# Altium integrated library TI_Logic_Specialty_Logic.IntLib: 2504 symbols (part 46 of 81)
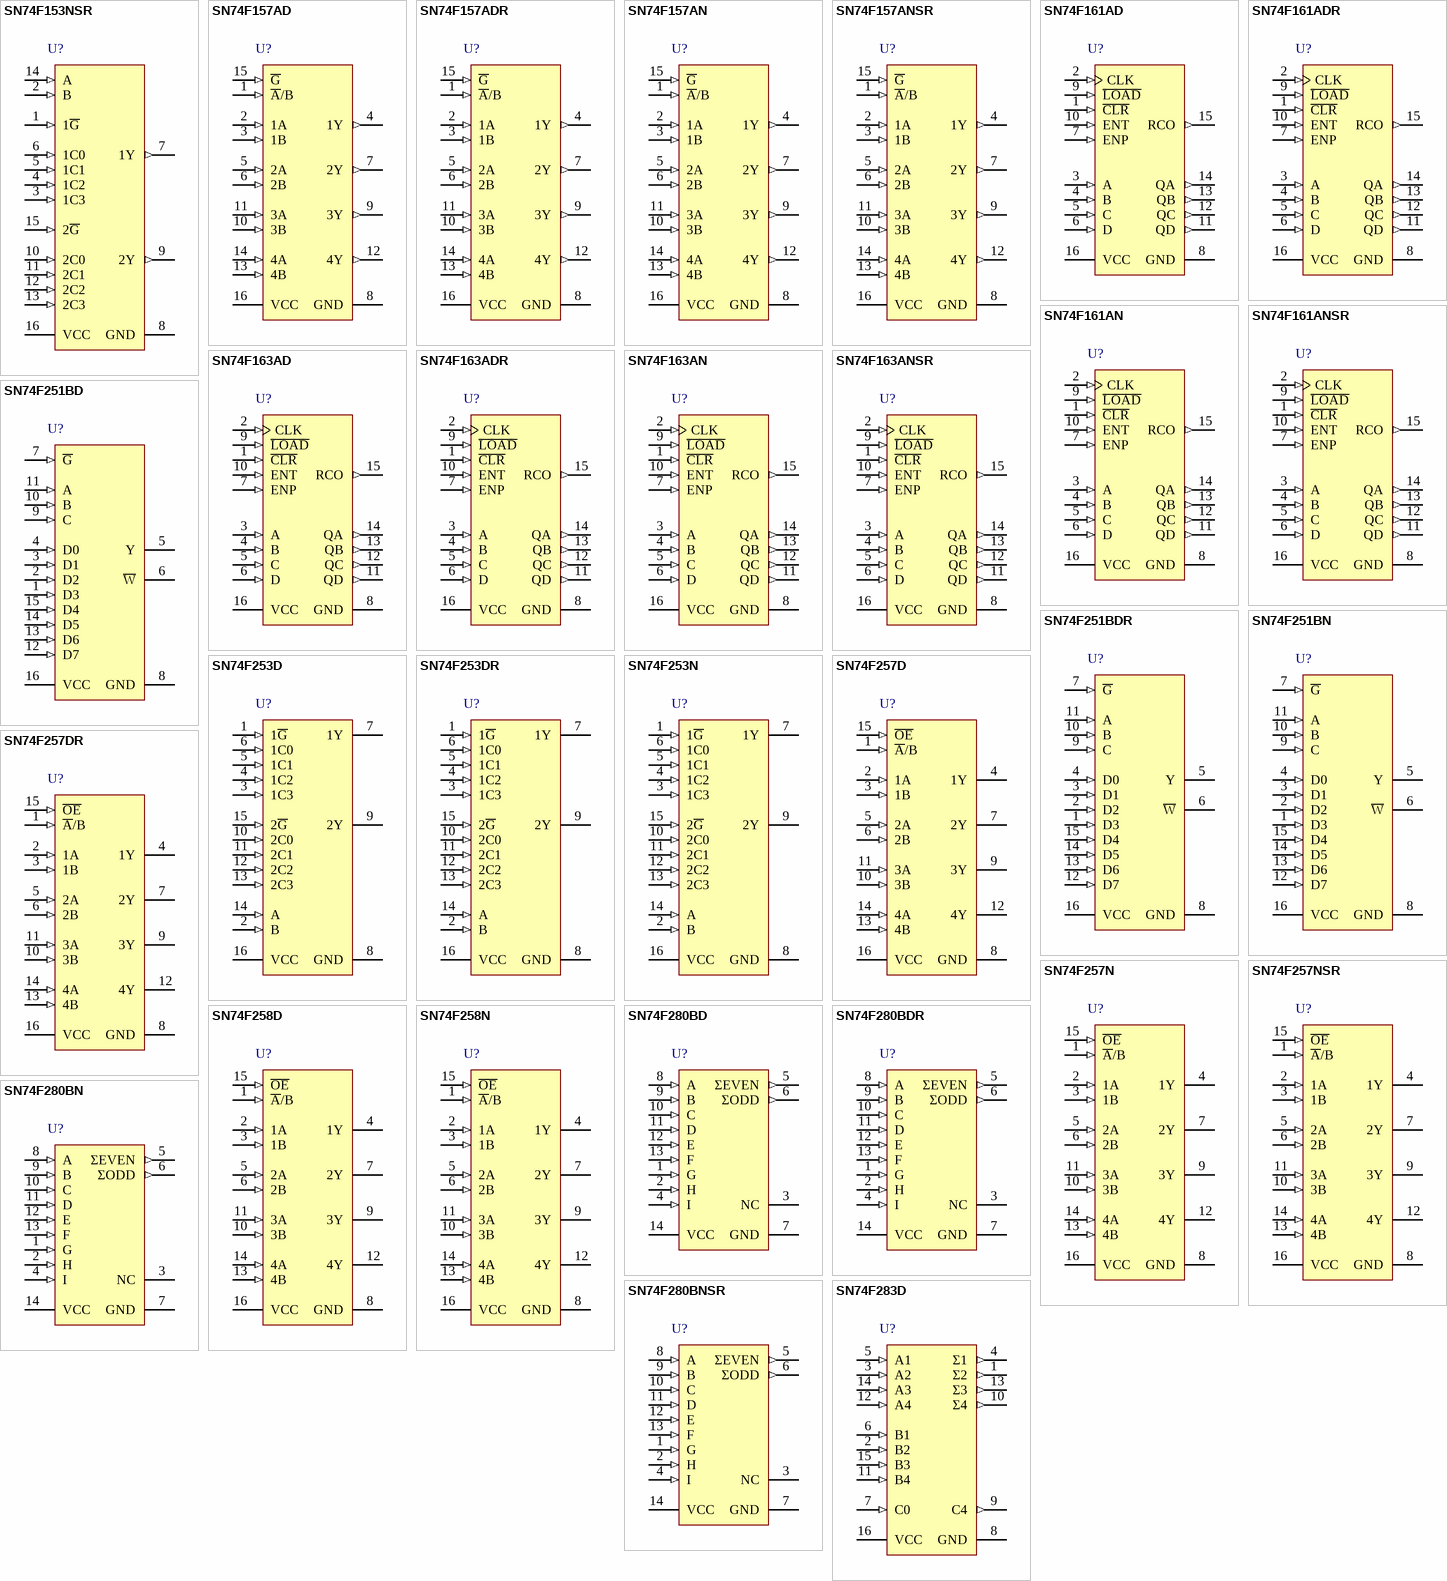
[diagram p149: symbols SN74F153NSR to SN74F283D]

## SN74F253D
designator U?
Dual 1-of-4 Data Selectors/Multiplexers With 3-State Outputs, D0016A, TUBE; Generic Part Number: SN74F253; Manufacturer: Texas Instruments; PartNumber: SN74F253D; VCC(Min)(V): 4.5; VCC(Max)(V): 5.5; Function: Encoder/Multiplexer; ICC @ Nom Voltage(Max)(mA): 23; F @ Nom Voltage(Max)(Mhz): 70; Configuration: 4：1; Channels(#): 2; Rating: Catalog; Technology Family: F; Voltage(Nom)(V): 5; Schmitt Trigger: No; Output Drive (IOL/IOH)(Max)(mA): 24/-3; tpd @ Nom Voltage(Max)(ns): 13; DatasheetVersion: SDFS064A; PackageReference: D0016A; Supplier 1: Mouser; Supplier Part Number 1: 595-SN74F253D; Supplier 2: Digi-Key; Supplier Part Number 2: 296-3573-5-ND; Operating Temperature Range(C): 0 to 70; Type: 3-State Output; Code_JEDEC: MS-012 variation AC; ComponentLink1Description: Manufacturer URL; ComponentLink1URL: http://www.ti.com/; ComponentLink2Description: Datasheet; ComponentLink2URL: http://www.ti.com/lit/ds/symlink/sn74f253.pdf; ComponentLink3Description: Package Specification; ComponentLink3URL: http://www.ti.com/lit/ml/mpds178g/mpds178g.pdf
footprint D0016A_N (SOIC, 16-Leads, Body 10x4mm, Pitch 1.27mm, IPC Medium Density)
footprint D0016A_M (SOIC, 16-Leads, Body 10x4mm, Pitch 1.27mm, IPC Low Density)
footprint D0016A_L (SOIC, 16-Leads, Body 10x4mm, Pitch 1.27mm, IPC High Density)
pins: 1 1~{G} (in), 2 B (in), 3 1C3 (in), 4 1C2 (in), 5 1C1 (in), 6 1C0 (in), 7 1Y (hiz), 8 GND (power), 9 2Y (hiz), 10 2C0 (in), 11 2C1 (in), 12 2C2 (in), 13 2C3 (in), 14 A (in), 15 2~{G} (in), 16 VCC (power)

## SN74F253DR
designator U?
Dual 1-of-4 Data Selectors/Multiplexers With 3-State Outputs, D0016A, LARGE T&R; Generic Part Number: SN74F253; Manufacturer: Texas Instruments; PartNumber: SN74F253DR; VCC(Min)(V): 4.5; VCC(Max)(V): 5.5; Function: Encoder/Multiplexer; ICC @ Nom Voltage(Max)(mA): 23; F @ Nom Voltage(Max)(Mhz): 70; Configuration: 4：1; Channels(#): 2; Rating: Catalog; Technology Family: F; Voltage(Nom)(V): 5; Schmitt Trigger: No; Output Drive (IOL/IOH)(Max)(mA): 24/-3; tpd @ Nom Voltage(Max)(ns): 13; DatasheetVersion: SDFS064A; PackageReference: D0016A; Supplier 1: Mouser; Supplier Part Number 1: 595-SN74F253DR; Supplier 2: Digi-Key; Supplier Part Number 2: 296-31764-2-ND; Supplier 3: Digi-Key; Supplier Part Number 3: 296-31764-1-ND; Supplier 4: Digi-Key; Supplier Part Number 4: 296-31764-6-ND; Operating Temperature Range(C): 0 to 70; Type: 3-State Output; Code_JEDEC: MS-012 variation AC; ComponentLink1Description: Manufacturer URL; ComponentLink1URL: http://www.ti.com/; ComponentLink2Description: Datasheet; ComponentLink2URL: http://www.ti.com/lit/ds/symlink/sn74f253.pdf; ComponentLink3Description: Package Specification; ComponentLink3URL: http://www.ti.com/lit/ml/mpds178g/mpds178g.pdf
footprint D0016A_N (SOIC, 16-Leads, Body 10x4mm, Pitch 1.27mm, IPC Medium Density)
footprint D0016A_M (SOIC, 16-Leads, Body 10x4mm, Pitch 1.27mm, IPC Low Density)
footprint D0016A_L (SOIC, 16-Leads, Body 10x4mm, Pitch 1.27mm, IPC High Density)
pins: 1 1~{G} (in), 2 B (in), 3 1C3 (in), 4 1C2 (in), 5 1C1 (in), 6 1C0 (in), 7 1Y (hiz), 8 GND (power), 9 2Y (hiz), 10 2C0 (in), 11 2C1 (in), 12 2C2 (in), 13 2C3 (in), 14 A (in), 15 2~{G} (in), 16 VCC (power)

## SN74F253N
designator U?
Dual 1-of-4 Data Selectors/Multiplexers With 3-State Outputs, N0016A, TUBE; Generic Part Number: SN74F253; Manufacturer: Texas Instruments; PartNumber: SN74F253N; VCC(Min)(V): 4.5; VCC(Max)(V): 5.5; Function: Encoder/Multiplexer; ICC @ Nom Voltage(Max)(mA): 23; F @ Nom Voltage(Max)(Mhz): 70; Configuration: 4：1; Channels(#): 2; Rating: Catalog; Technology Family: F; Voltage(Nom)(V): 5; Schmitt Trigger: No; Output Drive (IOL/IOH)(Max)(mA): 24/-3; tpd @ Nom Voltage(Max)(ns): 13; DatasheetVersion: SDFS064A; PackageReference: N0016A; Supplier 1: Mouser; Supplier Part Number 1: 595-SN74F253N; Supplier 2: Digi-Key; Supplier Part Number 2: 296-3574-5-ND; Operating Temperature Range(C): 0 to 70; Type: 3-State Output; Code_JEDEC: MS-001; ComponentLink1Description: Manufacturer URL; ComponentLink1URL: http://www.ti.com/; ComponentLink2Description: Datasheet; ComponentLink2URL: http://www.ti.com/lit/ds/symlink/sn74f253.pdf; ComponentLink3Description: Package Specification; ComponentLink3URL: http://www.ti.com/lit/ml/mpdi002c/mpdi002c.pdf
footprint N0016A (DIP, 16-Leads, Body 19.7x6.6mm, Pitch 2.54mm)
pins: 1 1~{G} (in), 2 B (in), 3 1C3 (in), 4 1C2 (in), 5 1C1 (in), 6 1C0 (in), 7 1Y (hiz), 8 GND (power), 9 2Y (hiz), 10 2C0 (in), 11 2C1 (in), 12 2C2 (in), 13 2C3 (in), 14 A (in), 15 2~{G} (in), 16 VCC (power)

## SN74F257D
designator U?
Quadruple 2-Line To 1-Line Data Selectors/Multiplexers With 3-State Outputs, D0016A, TUBE; Generic Part Number: SN74F257; Manufacturer: Texas Instruments; PartNumber: SN74F257D; VCC(Min)(V): 4.5; VCC(Max)(V): 5.5; Function: Encoder/Multiplexer; ICC @ Nom Voltage(Max)(mA): 23; F @ Nom Voltage(Max)(Mhz): 70; Configuration: 2：1; Channels(#): 4; Rating: Catalog; Technology Family: F; Voltage(Nom)(V): 5; Schmitt Trigger: No; Output Drive (IOL/IOH)(Max)(mA): 24/-3; tpd @ Nom Voltage(Max)(ns): 7; DatasheetVersion: SDFS065A; PackageReference: D0016A; Supplier 1: Mouser; Supplier Part Number 1: 595-SN74F257D; Supplier 2: Digi-Key; Supplier Part Number 2: 296-1555-5-ND; Operating Temperature Range(C): 0 to 70; Type: 3-State Output; Code_JEDEC: MS-012 variation AC; ComponentLink1Description: Manufacturer URL; ComponentLink1URL: http://www.ti.com/; ComponentLink2Description: Datasheet; ComponentLink2URL: http://www.ti.com/lit/ds/symlink/sn74f257.pdf; ComponentLink3Description: Package Specification; ComponentLink3URL: http://www.ti.com/lit/ml/mpds178g/mpds178g.pdf
footprint D0016A_N (SOIC, 16-Leads, Body 10x4mm, Pitch 1.27mm, IPC Medium Density)
footprint D0016A_M (SOIC, 16-Leads, Body 10x4mm, Pitch 1.27mm, IPC Low Density)
footprint D0016A_L (SOIC, 16-Leads, Body 10x4mm, Pitch 1.27mm, IPC High Density)
pins: 1 ~{A}/B (in), 2 1A (in), 3 1B (in), 4 1Y (hiz), 5 2A (in), 6 2B (in), 7 2Y (hiz), 8 GND (power), 9 3Y (hiz), 10 3B (in), 11 3A (in), 12 4Y (hiz), 13 4B (in), 14 4A (in), 15 ~{OE} (in), 16 VCC (power)

## SN74F257DR
designator U?
Quadruple 2-Line To 1-Line Data Selectors/Multiplexers With 3-State Outputs, D0016A, LARGE T&R; Generic Part Number: SN74F257; Manufacturer: Texas Instruments; PartNumber: SN74F257DR; VCC(Min)(V): 4.5; VCC(Max)(V): 5.5; Function: Encoder/Multiplexer; ICC @ Nom Voltage(Max)(mA): 23; F @ Nom Voltage(Max)(Mhz): 70; Configuration: 2：1; Channels(#): 4; Rating: Catalog; Technology Family: F; Voltage(Nom)(V): 5; Schmitt Trigger: No; Output Drive (IOL/IOH)(Max)(mA): 24/-3; tpd @ Nom Voltage(Max)(ns): 7; DatasheetVersion: SDFS065A; PackageReference: D0016A; Supplier 1: Mouser; Supplier Part Number 1: 595-SN74F257DR; Supplier 2: Digi-Key; Supplier Part Number 2: 296-1555-2-ND; Supplier 3: Digi-Key; Supplier Part Number 3: 296-1555-1-ND; Supplier 4: Digi-Key; Supplier Part Number 4: 296-1555-6-ND; Operating Temperature Range(C): 0 to 70; Type: 3-State Output; Code_JEDEC: MS-012 variation AC; ComponentLink1Description: Manufacturer URL; ComponentLink1URL: http://www.ti.com/; ComponentLink2Description: Datasheet; ComponentLink2URL: http://www.ti.com/lit/ds/symlink/sn74f257.pdf; ComponentLink3Description: Package Specification; ComponentLink3URL: http://www.ti.com/lit/ml/mpds178g/mpds178g.pdf
footprint D0016A_N (SOIC, 16-Leads, Body 10x4mm, Pitch 1.27mm, IPC Medium Density)
footprint D0016A_M (SOIC, 16-Leads, Body 10x4mm, Pitch 1.27mm, IPC Low Density)
footprint D0016A_L (SOIC, 16-Leads, Body 10x4mm, Pitch 1.27mm, IPC High Density)
pins: 1 ~{A}/B (in), 2 1A (in), 3 1B (in), 4 1Y (hiz), 5 2A (in), 6 2B (in), 7 2Y (hiz), 8 GND (power), 9 3Y (hiz), 10 3B (in), 11 3A (in), 12 4Y (hiz), 13 4B (in), 14 4A (in), 15 ~{OE} (in), 16 VCC (power)

## SN74F257N
designator U?
Quadruple 2-Line To 1-Line Data Selectors/Multiplexers With 3-State Outputs, N0016A, TUBE; Generic Part Number: SN74F257; Manufacturer: Texas Instruments; PartNumber: SN74F257N; VCC(Min)(V): 4.5; VCC(Max)(V): 5.5; Function: Encoder/Multiplexer; ICC @ Nom Voltage(Max)(mA): 23; F @ Nom Voltage(Max)(Mhz): 70; Configuration: 2：1; Channels(#): 4; Rating: Catalog; Technology Family: F; Voltage(Nom)(V): 5; Schmitt Trigger: No; Output Drive (IOL/IOH)(Max)(mA): 24/-3; tpd @ Nom Voltage(Max)(ns): 7; DatasheetVersion: SDFS065A; PackageReference: N0016A; Supplier 1: Mouser; Supplier Part Number 1: 595-SN74F257N; Supplier 2: Digi-Key; Supplier Part Number 2: 296-3575-5-ND; Operating Temperature Range(C): 0 to 70; Type: 3-State Output; Code_JEDEC: MS-001; ComponentLink1Description: Manufacturer URL; ComponentLink1URL: http://www.ti.com/; ComponentLink2Description: Datasheet; ComponentLink2URL: http://www.ti.com/lit/ds/symlink/sn74f257.pdf; ComponentLink3Description: Package Specification; ComponentLink3URL: http://www.ti.com/lit/ml/mpdi002c/mpdi002c.pdf
footprint N0016A (DIP, 16-Leads, Body 19.7x6.6mm, Pitch 2.54mm)
pins: 1 ~{A}/B (in), 2 1A (in), 3 1B (in), 4 1Y (hiz), 5 2A (in), 6 2B (in), 7 2Y (hiz), 8 GND (power), 9 3Y (hiz), 10 3B (in), 11 3A (in), 12 4Y (hiz), 13 4B (in), 14 4A (in), 15 ~{OE} (in), 16 VCC (power)

## SN74F257NSR
designator U?
Quadruple 2-Line To 1-Line Data Selectors/Multiplexers With 3-State Outputs, NS0016A, LARGE T&R; Generic Part Number: SN74F257; Manufacturer: Texas Instruments; PartNumber: SN74F257NSR; VCC(Min)(V): 4.5; VCC(Max)(V): 5.5; Function: Encoder/Multiplexer; ICC @ Nom Voltage(Max)(mA): 23; F @ Nom Voltage(Max)(Mhz): 70; Configuration: 2：1; Channels(#): 4; Rating: Catalog; Technology Family: F; Voltage(Nom)(V): 5; Schmitt Trigger: No; Output Drive (IOL/IOH)(Max)(mA): 24/-3; tpd @ Nom Voltage(Max)(ns): 7; DatasheetVersion: SDFS065A; PackageReference: NS0016A; Supplier 1: Mouser; Supplier Part Number 1: 595-SN74F257NSR; Supplier 2: Digi-Key; Supplier Part Number 2: 296-29996-2-ND; Supplier 3: Digi-Key; Supplier Part Number 3: 296-29996-1-ND; Supplier 4: Digi-Key; Supplier Part Number 4: 296-29996-6-ND; Operating Temperature Range(C): 0 to 70; Type: 3-State Output; ComponentLink1Description: Manufacturer URL; ComponentLink1URL: http://www.ti.com/; ComponentLink2Description: Datasheet; ComponentLink2URL: http://www.ti.com/lit/ds/symlink/sn74f257.pdf; ComponentLink3Description: Package Specification; ComponentLink3URL: http://www.ti.com/lit/ml/msop002a/msop002a.pdf
footprint NS0016A_N (SOIC,16-Leads,Body 10.5x5.6mm,Pitch 1.27mm,IPC Medium Density)
footprint NS0016A_M (SOIC,16-Leads,Body 10.5x5.6mm,Pitch 1.27mm,IPC Low Density)
footprint NS0016A_L (SOIC,16-Leads,Body 10.5x5.6mm,Pitch 1.27mm,IPC High Density)
pins: 1 ~{A}/B (in), 2 1A (in), 3 1B (in), 4 1Y (hiz), 5 2A (in), 6 2B (in), 7 2Y (hiz), 8 GND (power), 9 3Y (hiz), 10 3B (in), 11 3A (in), 12 4Y (hiz), 13 4B (in), 14 4A (in), 15 ~{OE} (in), 16 VCC (power)

## SN74F258D
designator U?
Quadruple 2-Line To 1-Line Data Selectors/Multiplexers With 3-State Outputs, D0016A, TUBE; Generic Part Number: SN74F258; Manufacturer: Texas Instruments; PartNumber: SN74F258D; VCC(Min)(V): 4.5; VCC(Max)(V): 5.5; Function: Encoder/Multiplexer; ICC @ Nom Voltage(Max)(mA): 23; F @ Nom Voltage(Max)(Mhz): 70; Configuration: 2：1; Channels(#): 4; Rating: Catalog; Technology Family: F; Voltage(Nom)(V): 5; Schmitt Trigger: No; Output Drive (IOL/IOH)(Max)(mA): 24/-3; tpd @ Nom Voltage(Max)(ns): 6; DatasheetVersion: SDFS067A; PackageReference: D0016A; Supplier 1: Mouser; Supplier Part Number 1: 595-SN74F258D; Supplier 2: Digi-Key; Supplier Part Number 2: 296-33903-5-ND; Operating Temperature Range(C): 0 to 70; Type: 3-State Output; Code_JEDEC: MS-012 variation AC; ComponentLink1Description: Manufacturer URL; ComponentLink1URL: http://www.ti.com/; ComponentLink2Description: Datasheet; ComponentLink2URL: http://www.ti.com/lit/ds/symlink/sn74f258.pdf; ComponentLink3Description: Package Specification; ComponentLink3URL: http://www.ti.com/lit/ml/mpds178g/mpds178g.pdf
footprint D0016A_N (SOIC, 16-Leads, Body 10x4mm, Pitch 1.27mm, IPC Medium Density)
footprint D0016A_M (SOIC, 16-Leads, Body 10x4mm, Pitch 1.27mm, IPC Low Density)
footprint D0016A_L (SOIC, 16-Leads, Body 10x4mm, Pitch 1.27mm, IPC High Density)
pins: 1 ~{A}/B (in), 2 1A (in), 3 1B (in), 4 1Y (hiz), 5 2A (in), 6 2B (in), 7 2Y (hiz), 8 GND (power), 9 3Y (hiz), 10 3B (in), 11 3A (in), 12 4Y (hiz), 13 4B (in), 14 4A (in), 15 ~{OE} (in), 16 VCC (power)

## SN74F258N
designator U?
Quadruple 2-Line To 1-Line Data Selectors/Multiplexers With 3-State Outputs, N0016A, TUBE; Generic Part Number: SN74F258; Manufacturer: Texas Instruments; PartNumber: SN74F258N; VCC(Min)(V): 4.5; VCC(Max)(V): 5.5; Function: Encoder/Multiplexer; ICC @ Nom Voltage(Max)(mA): 23; F @ Nom Voltage(Max)(Mhz): 70; Configuration: 2：1; Channels(#): 4; Rating: Catalog; Technology Family: F; Voltage(Nom)(V): 5; Schmitt Trigger: No; Output Drive (IOL/IOH)(Max)(mA): 24/-3; tpd @ Nom Voltage(Max)(ns): 6; DatasheetVersion: SDFS067A; PackageReference: N0016A; Supplier 1: Mouser; Supplier Part Number 1: 595-SN74F258N; Supplier 2: Digi-Key; Supplier Part Number 2: SN74F258N-ND; Operating Temperature Range(C): 0 to 70; Type: 3-State Output; Code_JEDEC: MS-001; ComponentLink1Description: Manufacturer URL; ComponentLink1URL: http://www.ti.com/; ComponentLink2Description: Datasheet; ComponentLink2URL: http://www.ti.com/lit/ds/symlink/sn74f258.pdf; ComponentLink3Description: Package Specification; ComponentLink3URL: http://www.ti.com/lit/ml/mpdi002c/mpdi002c.pdf
footprint N0016A (DIP, 16-Leads, Body 19.7x6.6mm, Pitch 2.54mm)
pins: 1 ~{A}/B (in), 2 1A (in), 3 1B (in), 4 1Y (hiz), 5 2A (in), 6 2B (in), 7 2Y (hiz), 8 GND (power), 9 3Y (hiz), 10 3B (in), 11 3A (in), 12 4Y (hiz), 13 4B (in), 14 4A (in), 15 ~{OE} (in), 16 VCC (power)

## SN74F280BD
designator U?
9-bit odd/even parity generators / checkers, D0014A, TUBE; Generic Part Number: SN74F280B; Manufacturer: Texas Instruments; PartNumber: SN74F280BD; VCC(Min)(V): 4.5; VCC(Max)(V): 5.5; Inputs: 9; ICC @ Nom Voltage(Max)(mA): 35; Bits(#): 2; F @ Nom Voltage(Max)(Mhz): 70; Rating: Catalog; Technology Family: F; Output Drive (IOL/IOH)(Max)(mA): 20/-1; tpd @ Nom Voltage(Max)(ns): 11; DatasheetVersion: SDFS008A; PackageReference: D0014A; Supplier 1: Mouser; Supplier Part Number 1: 595-SN74F280BD; Supplier 2: Digi-Key; Supplier Part Number 2: 296-3578-5-ND; Function: Parity; Operating Temperature Range(C): 0 to 70; Type: Other; Code_JEDEC: MS-012; ComponentLink1Description: Manufacturer URL; ComponentLink1URL: http://www.ti.com/; ComponentLink2Description: Datasheet; ComponentLink2URL: http://www.ti.com/lit/ds/symlink/sn74f280b.pdf; ComponentLink3Description: Package Specification; ComponentLink3URL: http://www.ti.com/lit/ml/mpds177g/mpds177g.pdf
footprint D0014A_N (SOIC, 14-Leads, Body 8.75x4mm, Pitch 1.27mm, IPC Medium Density)
footprint D0014A_M (SOIC, 14-Leads, Body 8.75x4mm, Pitch 1.27mm, IPC Low Density)
footprint D0014A_L (SOIC, 14-Leads, Body 8.75x4mm, Pitch 1.27mm, IPC High Density)
pins: 1 G (in), 2 H (in), 3 NC, 4 I (in), 5 ΣEVEN (out), 6 ΣODD (out), 7 GND (power), 8 A (in), 9 B (in), 10 C (in), 11 D (in), 12 E (in), 13 F (in), 14 VCC (power)

## SN74F280BDR
designator U?
9-bit odd/even parity generators / checkers, D0014A, LARGE T&R; Generic Part Number: SN74F280B; Manufacturer: Texas Instruments; PartNumber: SN74F280BDR; VCC(Min)(V): 4.5; VCC(Max)(V): 5.5; Inputs: 9; ICC @ Nom Voltage(Max)(mA): 35; Bits(#): 2; F @ Nom Voltage(Max)(Mhz): 70; Rating: Catalog; Technology Family: F; Output Drive (IOL/IOH)(Max)(mA): 20/-1; tpd @ Nom Voltage(Max)(ns): 11; DatasheetVersion: SDFS008A; PackageReference: D0014A; Supplier 1: Mouser; Supplier Part Number 1: 595-SN74F280BDR; Supplier 2: Digi-Key; Supplier Part Number 2: 296-14816-2-ND; Supplier 3: Digi-Key; Supplier Part Number 3: 296-14816-1-ND; Supplier 4: Digi-Key; Supplier Part Number 4: 296-14816-6-ND; Function: Parity; Operating Temperature Range(C): 0 to 70; Type: Other; Code_JEDEC: MS-012; ComponentLink1Description: Manufacturer URL; ComponentLink1URL: http://www.ti.com/; ComponentLink2Description: Datasheet; ComponentLink2URL: http://www.ti.com/lit/ds/symlink/sn74f280b.pdf; ComponentLink3Description: Package Specification; ComponentLink3URL: http://www.ti.com/lit/ml/mpds177g/mpds177g.pdf
footprint D0014A_N (SOIC, 14-Leads, Body 8.75x4mm, Pitch 1.27mm, IPC Medium Density)
footprint D0014A_M (SOIC, 14-Leads, Body 8.75x4mm, Pitch 1.27mm, IPC Low Density)
footprint D0014A_L (SOIC, 14-Leads, Body 8.75x4mm, Pitch 1.27mm, IPC High Density)
pins: 1 G (in), 2 H (in), 3 NC, 4 I (in), 5 ΣEVEN (out), 6 ΣODD (out), 7 GND (power), 8 A (in), 9 B (in), 10 C (in), 11 D (in), 12 E (in), 13 F (in), 14 VCC (power)

## SN74F280BN
designator U?
9-bit odd/even parity generators / checkers, N0014A, TUBE; Generic Part Number: SN74F280B; Manufacturer: Texas Instruments; PartNumber: SN74F280BN; VCC(Min)(V): 4.5; VCC(Max)(V): 5.5; Inputs: 9; ICC @ Nom Voltage(Max)(mA): 35; Bits(#): 2; F @ Nom Voltage(Max)(Mhz): 70; Rating: Catalog; Technology Family: F; Output Drive (IOL/IOH)(Max)(mA): 20/-1; tpd @ Nom Voltage(Max)(ns): 11; DatasheetVersion: SDFS008A; PackageReference: N0014A; Supplier 1: Mouser; Supplier Part Number 1: 595-SN74F280BN; Supplier 2: Digi-Key; Supplier Part Number 2: 296-3579-5-ND; Function: Parity; Operating Temperature Range(C): 0 to 70; Type: Other; Code_JEDEC: MS-001; ComponentLink1Description: Manufacturer URL; ComponentLink1URL: http://www.ti.com/; ComponentLink2Description: Datasheet; ComponentLink2URL: http://www.ti.com/lit/ds/symlink/sn74f280b.pdf; ComponentLink3Description: Package Specification; ComponentLink3URL: http://www.ti.com/lit/ml/mpdi002c/mpdi002c.pdf
footprint N0014A (DIP, 14-Leads, Body 19.7x6.6mm, Pitch 2.54mm)
pins: 1 G (in), 2 H (in), 3 NC, 4 I (in), 5 ΣEVEN (out), 6 ΣODD (out), 7 GND (power), 8 A (in), 9 B (in), 10 C (in), 11 D (in), 12 E (in), 13 F (in), 14 VCC (power)

## SN74F280BNSR
designator U?
9-bit odd/even parity generators / checkers, NS0014A, LARGE T&R; Generic Part Number: SN74F280B; Manufacturer: Texas Instruments; PartNumber: SN74F280BNSR; VCC(Min)(V): 4.5; VCC(Max)(V): 5.5; Inputs: 9; ICC @ Nom Voltage(Max)(mA): 35; Bits(#): 2; F @ Nom Voltage(Max)(Mhz): 70; Rating: Catalog; Technology Family: F; Output Drive (IOL/IOH)(Max)(mA): 20/-1; tpd @ Nom Voltage(Max)(ns): 11; DatasheetVersion: SDFS008A; PackageReference: NS0014A; Supplier 1: Mouser; Supplier Part Number 1: 595-SN74F280BNSR; Supplier 2: Digi-Key; Supplier Part Number 2: SN74F280BNSR-ND; Function: Parity; Operating Temperature Range(C): 0 to 70; Type: Other; ComponentLink1Description: Manufacturer URL; ComponentLink1URL: http://www.ti.com/; ComponentLink2Description: Datasheet; ComponentLink2URL: http://www.ti.com/lit/ds/symlink/sn74f280b.pdf; ComponentLink3Description: Package Specification; ComponentLink3URL: http://www.ti.com/lit/ml/msop002a/msop002a.pdf
footprint NS0014A_N (SOIC,14-Leads,Body 10.5x5.6mm,Pitch 1.27mm,IPC Medium Density)
footprint NS0014A_M (SOIC,14-Leads,Body 10.5x5.6mm,Pitch 1.27mm,IPC Low Density)
footprint NS0014A_L (SOIC,14-Leads,Body 10.5x5.6mm,Pitch 0.4mm,IPC High Density)
pins: 1 G (in), 2 H (in), 3 NC, 4 I (in), 5 ΣEVEN (out), 6 ΣODD (out), 7 GND (power), 8 A (in), 9 B (in), 10 C (in), 11 D (in), 12 E (in), 13 F (in), 14 VCC (power)

## SN74F283D
designator U?
4-Bit Binary Full Adders With Fast Carry, D0016A, TUBE; Generic Part Number: SN74F283; Manufacturer: Texas Instruments; PartNumber: SN74F283D; VCC(Min)(V): 4.5; VCC(Max)(V): 5.5; Inputs: 9; Function: Arithmetic; ICC @ Nom Voltage(Max)(mA): 55; Bits(#): 4; F @ Nom Voltage(Max)(Mhz): 70; Rating: Catalog; Technology Family: F; Output Drive (IOL/IOH)(Max)(mA): 20/-1; tpd @ Nom Voltage(Max)(ns): 10.5; DatasheetVersion: SDFS069A; PackageReference: D0016A; Supplier 1: Mouser; Supplier Part Number 1: 595-SN74F283D; Supplier 2: Digi-Key; Supplier Part Number 2: 296-33907-5-ND; Operating Temperature Range(C): 0 to 70; Type: Binary; Code_JEDEC: MS-012 variation AC; ComponentLink1Description: Manufacturer URL; ComponentLink1URL: http://www.ti.com/; ComponentLink2Description: Datasheet; ComponentLink2URL: http://www.ti.com/lit/ds/symlink/sn74f283.pdf; ComponentLink3Description: Package Specification; ComponentLink3URL: http://www.ti.com/lit/ml/mpds178g/mpds178g.pdf
footprint D0016A_N (SOIC, 16-Leads, Body 10x4mm, Pitch 1.27mm, IPC Medium Density)
footprint D0016A_M (SOIC, 16-Leads, Body 10x4mm, Pitch 1.27mm, IPC Low Density)
footprint D0016A_L (SOIC, 16-Leads, Body 10x4mm, Pitch 1.27mm, IPC High Density)
pins: 1 Σ2 (out), 2 B2 (in), 3 A2 (in), 4 Σ1 (out), 5 A1 (in), 6 B1 (in), 7 C0 (in), 8 GND (power), 9 C4 (out), 10 Σ4 (out), 11 B4 (in), 12 A4 (in), 13 Σ3 (out), 14 A3 (in), 15 B3 (in), 16 VCC (power)

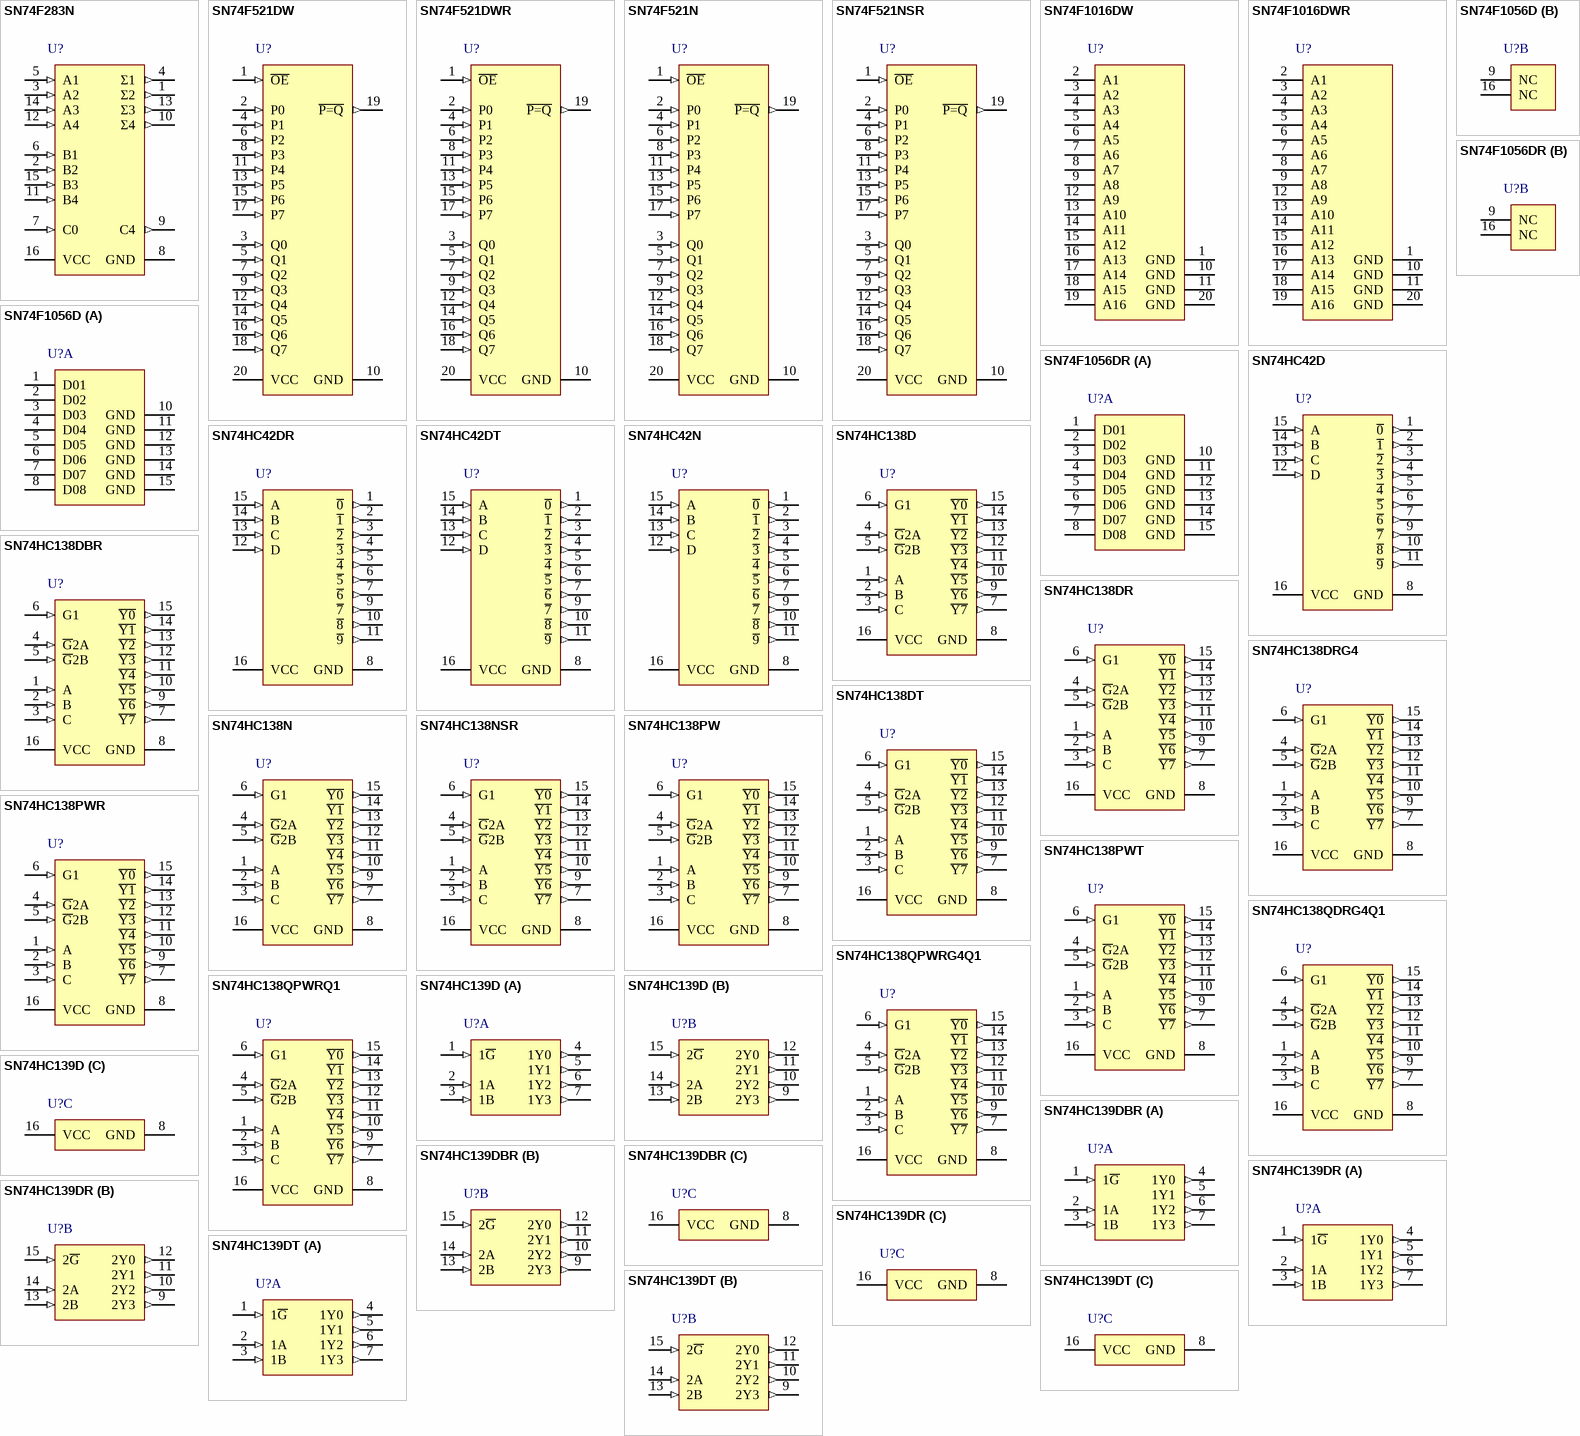
[diagram p59: symbols SN74F283N to SN74HC139DT]

## SN74F283N
designator U?
4-Bit Binary Full Adders With Fast Carry, N0016A, TUBE; Generic Part Number: SN74F283; Manufacturer: Texas Instruments; PartNumber: SN74F283N; VCC(Min)(V): 4.5; VCC(Max)(V): 5.5; Inputs: 9; Function: Arithmetic; ICC @ Nom Voltage(Max)(mA): 55; Bits(#): 4; F @ Nom Voltage(Max)(Mhz): 70; Rating: Catalog; Technology Family: F; Output Drive (IOL/IOH)(Max)(mA): 20/-1; tpd @ Nom Voltage(Max)(ns): 10.5; DatasheetVersion: SDFS069A; PackageReference: N0016A; Supplier 1: Mouser; Supplier Part Number 1: 595-SN74F283N; Supplier 2: Digi-Key; Supplier Part Number 2: 296-3580-5-ND; Operating Temperature Range(C): 0 to 70; Type: Binary; Code_JEDEC: MS-001; ComponentLink1Description: Manufacturer URL; ComponentLink1URL: http://www.ti.com/; ComponentLink2Description: Datasheet; ComponentLink2URL: http://www.ti.com/lit/ds/symlink/sn74f283.pdf; ComponentLink3Description: Package Specification; ComponentLink3URL: http://www.ti.com/lit/ml/mpdi002c/mpdi002c.pdf
footprint N0016A (DIP, 16-Leads, Body 19.7x6.6mm, Pitch 2.54mm)
pins: 1 Σ2 (out), 2 B2 (in), 3 A2 (in), 4 Σ1 (out), 5 A1 (in), 6 B1 (in), 7 C0 (in), 8 GND (power), 9 C4 (out), 10 Σ4 (out), 11 B4 (in), 12 A4 (in), 13 Σ3 (out), 14 A3 (in), 15 B3 (in), 16 VCC (power)

## SN74F521DW
designator U?
8-Bit Identity/Magnitude Comparators (P=Q) with Enable, DW0020A, TUBE; Generic Part Number: SN74F521; Manufacturer: Texas Instruments; PartNumber: SN74F521DW; VCC(Min)(V): 4.5; VCC(Max)(V): 5.5; Output Type: TTL; ICC @ Nom Voltage(Max)(mA): 32; Bits(#): 8; F @ Nom Voltage(Max)(Mhz): 70; Rating: Catalog; Technology Family: F; Voltage(Nom)(V): 5; Output Drive (IOL/IOH)(Max)(mA): 20/-1; tpd @ Nom Voltage(Max)(ns): 11; DatasheetVersion: SDFS091; PackageReference: DW0020A; Supplier 1: Mouser; Supplier Part Number 1: 595-SN74F521DW; Supplier 2: Digi-Key; Supplier Part Number 2: 296-3592-5-ND; Input Type: TTL; Operating Temperature Range(C): 0 to 70; ComponentLink1Description: Manufacturer URL; ComponentLink1URL: http://www.ti.com/; ComponentLink2Description: Datasheet; ComponentLink2URL: http://www.ti.com/lit/ds/symlink/sn74f521.pdf
footprint DW0020A_N (SOIC, 20-Leads, Body 13x7.6mm, Pitch 1.27mm, IPC Medium Density)
footprint DW0020A_M (SOIC, 20-Leads, Body 13x7.6mm, Pitch 1.27mm, IPC Low Density)
footprint DW0020A_L (SOIC, 20-Leads, Body 13x7.6mm, Pitch 1.27mm, IPC High Density)
pins: 1 ~{OE} (in), 2 P0 (in), 3 Q0 (in), 4 P1 (in), 5 Q1 (in), 6 P2 (in), 7 Q2 (in), 8 P3 (in), 9 Q3 (in), 10 GND (power), 11 P4 (in), 12 Q4 (in), 13 P5 (in), 14 Q5 (in), 15 P6 (in), 16 Q6 (in), 17 P7 (in), 18 Q7 (in), 19 ~{P=Q} (out), 20 VCC (power)

## SN74F521DWR
designator U?
8-Bit Identity/Magnitude Comparators (P=Q) with Enable, DW0020A, LARGE T&R; Generic Part Number: SN74F521; Manufacturer: Texas Instruments; PartNumber: SN74F521DWR; VCC(Min)(V): 4.5; VCC(Max)(V): 5.5; Output Type: TTL; ICC @ Nom Voltage(Max)(mA): 32; Bits(#): 8; F @ Nom Voltage(Max)(Mhz): 70; Rating: Catalog; Technology Family: F; Voltage(Nom)(V): 5; Output Drive (IOL/IOH)(Max)(mA): 20/-1; tpd @ Nom Voltage(Max)(ns): 11; DatasheetVersion: SDFS091; PackageReference: DW0020A; Supplier 1: Mouser; Supplier Part Number 1: 595-SN74F521DWR; Supplier 2: Digi-Key; Supplier Part Number 2: 296-14819-2-ND; Supplier 3: Digi-Key; Supplier Part Number 3: 296-14819-1-ND; Supplier 4: Digi-Key; Supplier Part Number 4: 296-14819-6-ND; Input Type: TTL; Operating Temperature Range(C): 0 to 70; ComponentLink1Description: Manufacturer URL; ComponentLink1URL: http://www.ti.com/; ComponentLink2Description: Datasheet; ComponentLink2URL: http://www.ti.com/lit/ds/symlink/sn74f521.pdf
footprint DW0020A_N (SOIC, 20-Leads, Body 13x7.6mm, Pitch 1.27mm, IPC Medium Density)
footprint DW0020A_M (SOIC, 20-Leads, Body 13x7.6mm, Pitch 1.27mm, IPC Low Density)
footprint DW0020A_L (SOIC, 20-Leads, Body 13x7.6mm, Pitch 1.27mm, IPC High Density)
pins: 1 ~{OE} (in), 2 P0 (in), 3 Q0 (in), 4 P1 (in), 5 Q1 (in), 6 P2 (in), 7 Q2 (in), 8 P3 (in), 9 Q3 (in), 10 GND (power), 11 P4 (in), 12 Q4 (in), 13 P5 (in), 14 Q5 (in), 15 P6 (in), 16 Q6 (in), 17 P7 (in), 18 Q7 (in), 19 ~{P=Q} (out), 20 VCC (power)

## SN74F521N
designator U?
8-Bit Identity/Magnitude Comparators (P=Q) with Enable, N0020A, TUBE; Generic Part Number: SN74F521; Manufacturer: Texas Instruments; PartNumber: SN74F521N; VCC(Min)(V): 4.5; VCC(Max)(V): 5.5; Output Type: TTL; ICC @ Nom Voltage(Max)(mA): 32; Bits(#): 8; F @ Nom Voltage(Max)(Mhz): 70; Rating: Catalog; Technology Family: F; Voltage(Nom)(V): 5; Output Drive (IOL/IOH)(Max)(mA): 20/-1; tpd @ Nom Voltage(Max)(ns): 11; DatasheetVersion: SDFS091; PackageReference: N0020A; Supplier 1: Mouser; Supplier Part Number 1: 595-SN74F521N; Supplier 2: Digi-Key; Supplier Part Number 2: 296-33912-5-ND; Input Type: TTL; Operating Temperature Range(C): 0 to 70; ComponentLink1Description: Manufacturer URL; ComponentLink1URL: http://www.ti.com/; ComponentLink2Description: Datasheet; ComponentLink2URL: http://www.ti.com/lit/ds/symlink/sn74f521.pdf
footprint N0020A (DIP, 20-Leads, Body 26.9x6.6mm, Pitch 2.54mm)
pins: 1 ~{OE} (in), 2 P0 (in), 3 Q0 (in), 4 P1 (in), 5 Q1 (in), 6 P2 (in), 7 Q2 (in), 8 P3 (in), 9 Q3 (in), 10 GND (power), 11 P4 (in), 12 Q4 (in), 13 P5 (in), 14 Q5 (in), 15 P6 (in), 16 Q6 (in), 17 P7 (in), 18 Q7 (in), 19 ~{P=Q} (out), 20 VCC (power)

## SN74F521NSR
designator U?
8-Bit Identity/Magnitude Comparators (P=Q) with Enable, NS0020A, LARGE T&R; Generic Part Number: SN74F521; Manufacturer: Texas Instruments; PartNumber: SN74F521NSR; VCC(Min)(V): 4.5; VCC(Max)(V): 5.5; Output Type: TTL; ICC @ Nom Voltage(Max)(mA): 32; Bits(#): 8; F @ Nom Voltage(Max)(Mhz): 70; Rating: Catalog; Technology Family: F; Voltage(Nom)(V): 5; Output Drive (IOL/IOH)(Max)(mA): 20/-1; tpd @ Nom Voltage(Max)(ns): 11; DatasheetVersion: SDFS091; PackageReference: NS0020A; Supplier 1: Mouser; Supplier Part Number 1: 595-SN74F521NSR; Supplier 2: Digi-Key; Supplier Part Number 2: SN74F521NSR-ND; Input Type: TTL; Operating Temperature Range(C): 0 to 70; ComponentLink1Description: Manufacturer URL; ComponentLink1URL: http://www.ti.com/; ComponentLink2Description: Datasheet; ComponentLink2URL: http://www.ti.com/lit/ds/symlink/sn74f521.pdf
footprint NS0020A_N (SOIC,20-Leads,Body 12.9x5.6mm,Pitch 1.27mm,IPC Medium Density)
footprint NS0020A_M (SOIC,20-Leads,Body 12.9x5.6mm,Pitch 1.27mm,IPC Low Density)
footprint NS0020A_L (SOIC,20-Leads,Body 12.9x5.6mm,Pitch 1.27mm,IPC High Density)
pins: 1 ~{OE} (in), 2 P0 (in), 3 Q0 (in), 4 P1 (in), 5 Q1 (in), 6 P2 (in), 7 Q2 (in), 8 P3 (in), 9 Q3 (in), 10 GND (power), 11 P4 (in), 12 Q4 (in), 13 P5 (in), 14 Q5 (in), 15 P6 (in), 16 Q6 (in), 17 P7 (in), 18 Q7 (in), 19 ~{P=Q} (out), 20 VCC (power)

## SN74F1016DW
designator U?
16-Bit Schottky Barrier Diode R-C Bus-Termination Array, DW0020A, TUBE; Generic Part Number: SN74F1016; Manufacturer: Texas Instruments; PartNumber: SN74F1016DW; Output Type: TTL; Vf(Max)(V): 1.25; Bits(#): 16; F @ Nom Voltage(Max)(Mhz): 70; Technology Family: F; Voltage(Nom)(V): 5; tpd @ Nom Voltage(Max)(ns): 10; DatasheetVersion: SDFS093; PackageReference: DW0020A; Supplier 1: Mouser; Supplier Part Number 1: 595-SN74F1016DW; Supplier 2: Digi-Key; Supplier Part Number 2: 296-3544-5-ND; Input Type: TTL; Operating Temperature Range(C): 0 to 70; Code_JEDEC: MS-013; ComponentLink1Description: Manufacturer URL; ComponentLink1URL: http://www.ti.com/; ComponentLink2Description: Datasheet; ComponentLink2URL: http://www.ti.com/lit/ds/symlink/sn74f1016.pdf; ComponentLink3Description: Package Specification; ComponentLink3URL: http://www.ti.com/lit/ml/mpds173a/mpds173a.pdf
footprint DW0020A_N (SOIC, 20-Leads, Body 13x7.6mm, Pitch 1.27mm, IPC Medium Density)
footprint DW0020A_M (SOIC, 20-Leads, Body 13x7.6mm, Pitch 1.27mm, IPC Low Density)
footprint DW0020A_L (SOIC, 20-Leads, Body 13x7.6mm, Pitch 1.27mm, IPC High Density)
pins: 1 GND, 2 A1, 3 A2, 4 A3, 5 A4, 6 A5, 7 A6, 8 A7, 9 A8, 10 GND, 11 GND, 12 A9, 13 A10, 14 A11, 15 A12, 16 A13, 17 A14, 18 A15, 19 A16, 20 GND

## SN74F1016DWR
designator U?
16-Bit Schottky Barrier Diode R-C Bus-Termination Array, DW0020A, LARGE T&R; Generic Part Number: SN74F1016; Manufacturer: Texas Instruments; PartNumber: SN74F1016DWR; Output Type: TTL; Vf(Max)(V): 1.25; Bits(#): 16; F @ Nom Voltage(Max)(Mhz): 70; Technology Family: F; Voltage(Nom)(V): 5; tpd @ Nom Voltage(Max)(ns): 10; DatasheetVersion: SDFS093; PackageReference: DW0020A; Supplier 1: Mouser; Supplier Part Number 1: 595-SN74F1016DWR; Supplier 2: Digi-Key; Supplier Part Number 2: 296-3544-2-ND; Supplier 3: Digi-Key; Supplier Part Number 3: 296-3544-1-ND; Supplier 4: Digi-Key; Supplier Part Number 4: 296-3544-6-ND; Input Type: TTL; Operating Temperature Range(C): 0 to 70; Code_JEDEC: MS-013; ComponentLink1Description: Manufacturer URL; ComponentLink1URL: http://www.ti.com/; ComponentLink2Description: Datasheet; ComponentLink2URL: http://www.ti.com/lit/ds/symlink/sn74f1016.pdf; ComponentLink3Description: Package Specification; ComponentLink3URL: http://www.ti.com/lit/ml/mpds173a/mpds173a.pdf
footprint DW0020A_N (SOIC, 20-Leads, Body 13x7.6mm, Pitch 1.27mm, IPC Medium Density)
footprint DW0020A_M (SOIC, 20-Leads, Body 13x7.6mm, Pitch 1.27mm, IPC Low Density)
footprint DW0020A_L (SOIC, 20-Leads, Body 13x7.6mm, Pitch 1.27mm, IPC High Density)
pins: 1 GND, 2 A1, 3 A2, 4 A3, 5 A4, 6 A5, 7 A6, 8 A7, 9 A8, 10 GND, 11 GND, 12 A9, 13 A10, 14 A11, 15 A12, 16 A13, 17 A14, 18 A15, 19 A16, 20 GND

## SN74F1056D
designator U?
8-bit Schottky Barrier Diode Bus-Termination Array, D0016A, TUBE; Generic Part Number: SN74F1056; Manufacturer: Texas Instruments; PartNumber: SN74F1056D; Output Type: TTL; Vf(Max)(V): 1.2; Bits(#): 8; F @ Nom Voltage(Max)(Mhz): 70; Technology Family: F; Voltage(Nom)(V): 5; tpd @ Nom Voltage(Max)(ns): 7; DatasheetVersion: SDFS085A; PackageReference: D0016A; Supplier 1: Mouser; Supplier Part Number 1: 595-SN74F1056D; Supplier 2: Digi-Key; Supplier Part Number 2: 296-33888-5-ND; Input Type: TTL; Operating Temperature Range(C): 0 to 70; Code_JEDEC: MS-012 variation AC; ComponentLink1Description: Manufacturer URL; ComponentLink1URL: http://www.ti.com/; ComponentLink2Description: Datasheet; ComponentLink2URL: http://www.ti.com/lit/ds/symlink/sn74f1056.pdf; ComponentLink3Description: Package Specification; ComponentLink3URL: http://www.ti.com/lit/ml/mpds178g/mpds178g.pdf
footprint D0016A_N (SOIC, 16-Leads, Body 10x4mm, Pitch 1.27mm, IPC Medium Density)
footprint D0016A_M (SOIC, 16-Leads, Body 10x4mm, Pitch 1.27mm, IPC Low Density)
footprint D0016A_L (SOIC, 16-Leads, Body 10x4mm, Pitch 1.27mm, IPC High Density)
part A pins: 1 D01, 2 D02, 3 D03, 4 D04, 5 D05, 6 D06, 7 D07, 8 D08, 10 GND, 11 GND, 12 GND, 13 GND, 14 GND, 15 GND
part B pins: 9 NC, 16 NC

## SN74F1056DR
designator U?
8-bit Schottky Barrier Diode Bus-Termination Array, D0016A, LARGE T&R; Generic Part Number: SN74F1056; Manufacturer: Texas Instruments; PartNumber: SN74F1056DR; Output Type: TTL; Vf(Max)(V): 1.2; Bits(#): 8; F @ Nom Voltage(Max)(Mhz): 70; Technology Family: F; Voltage(Nom)(V): 5; tpd @ Nom Voltage(Max)(ns): 7; DatasheetVersion: SDFS085A; PackageReference: D0016A; Supplier 1: Mouser; Supplier Part Number 1: 595-SN74F1056DR; Supplier 2: Digi-Key; Supplier Part Number 2: SN74F1056DR-ND; Input Type: TTL; Operating Temperature Range(C): 0 to 70; Code_JEDEC: MS-012 variation AC; ComponentLink1Description: Manufacturer URL; ComponentLink1URL: http://www.ti.com/; ComponentLink2Description: Datasheet; ComponentLink2URL: http://www.ti.com/lit/ds/symlink/sn74f1056.pdf; ComponentLink3Description: Package Specification; ComponentLink3URL: http://www.ti.com/lit/ml/mpds178g/mpds178g.pdf
footprint D0016A_N (SOIC, 16-Leads, Body 10x4mm, Pitch 1.27mm, IPC Medium Density)
footprint D0016A_M (SOIC, 16-Leads, Body 10x4mm, Pitch 1.27mm, IPC Low Density)
footprint D0016A_L (SOIC, 16-Leads, Body 10x4mm, Pitch 1.27mm, IPC High Density)
part A pins: 1 D01, 2 D02, 3 D03, 4 D04, 5 D05, 6 D06, 7 D07, 8 D08, 10 GND, 11 GND, 12 GND, 13 GND, 14 GND, 15 GND
part B pins: 9 NC, 16 NC

## SN74HC42D
designator U?
4-Line To 10-Line Decoders (1 of 10), D0016A, TUBE; Generic Part Number: SN74HC42; Manufacturer: Texas Instruments; PartNumber: SN74HC42D; VCC(Min)(V): 2; VCC(Max)(V): 6; Output Type: CMOS; Function: Decoder/Demultiplexer; ICC @ Nom Voltage(Max)(mA): 0.08; Input Type: LVTTL/CMOS; Bits(#): 10; F @ Nom Voltage(Max)(Mhz): 28; Configuration: 4：10; Channels(#): 1; Rating: Catalog; Technology Family: HC; Voltage(Nom)(V): 3.3,5; Schmitt Trigger: No; Output Drive (IOL/IOH)(Max)(mA): 5.2/-5.2; tpd @ Nom Voltage(Max)(ns): 38; DatasheetVersion: SCLS091D; PackageReference: D0016A; Supplier 1: Mouser; Supplier Part Number 1: 595-SN74HC42D; Supplier 2: Digi-Key; Supplier Part Number 2: 296-8331-5-ND; Operating Temperature Range(C): -40 to 85; Type: Standard; Code_JEDEC: MS-012 variation AC; ComponentLink1Description: Manufacturer URL; ComponentLink1URL: http://www.ti.com/; ComponentLink2Description: Datasheet; ComponentLink2URL: http://www.ti.com/lit/ds/symlink/sn74hc42.pdf; ComponentLink3Description: Package Specification; ComponentLink3URL: http://www.ti.com/lit/ml/mpds178g/mpds178g.pdf
footprint D0016A_N (SOIC, 16-Leads, Body 10x4mm, Pitch 1.27mm, IPC Medium Density)
footprint D0016A_M (SOIC, 16-Leads, Body 10x4mm, Pitch 1.27mm, IPC Low Density)
footprint D0016A_L (SOIC, 16-Leads, Body 10x4mm, Pitch 1.27mm, IPC High Density)
pins: 1 ~{0} (out), 2 ~{1} (out), 3 ~{2} (out), 4 ~{3} (out), 5 ~{4} (out), 6 ~{5} (out), 7 ~{6} (out), 8 GND (power), 9 ~{7} (out), 10 ~{8} (out), 11 ~{9} (out), 12 D (in), 13 C (in), 14 B (in), 15 A (in), 16 VCC (power)

## SN74HC42DR
designator U?
4-Line To 10-Line Decoders (1 of 10), D0016A, LARGE T&R; Generic Part Number: SN74HC42; Manufacturer: Texas Instruments; PartNumber: SN74HC42DR; VCC(Min)(V): 2; VCC(Max)(V): 6; Output Type: CMOS; Function: Decoder/Demultiplexer; ICC @ Nom Voltage(Max)(mA): 0.08; Input Type: LVTTL/CMOS; Bits(#): 10; F @ Nom Voltage(Max)(Mhz): 28; Configuration: 4：10; Channels(#): 1; Rating: Catalog; Technology Family: HC; Voltage(Nom)(V): 3.3,5; Schmitt Trigger: No; Output Drive (IOL/IOH)(Max)(mA): 5.2/-5.2; tpd @ Nom Voltage(Max)(ns): 38; DatasheetVersion: SCLS091D; PackageReference: D0016A; Supplier 1: Mouser; Supplier Part Number 1: 595-SN74HC42DR; Supplier 2: Digi-Key; Supplier Part Number 2: 296-8331-2-ND; Supplier 3: Digi-Key; Supplier Part Number 3: 296-8331-1-ND; Supplier 4: Digi-Key; Supplier Part Number 4: 296-8331-6-ND; Operating Temperature Range(C): -40 to 85; Type: Standard; Code_JEDEC: MS-012 variation AC; ComponentLink1Description: Manufacturer URL; ComponentLink1URL: http://www.ti.com/; ComponentLink2Description: Datasheet; ComponentLink2URL: http://www.ti.com/lit/ds/symlink/sn74hc42.pdf; ComponentLink3Description: Package Specification; ComponentLink3URL: http://www.ti.com/lit/ml/mpds178g/mpds178g.pdf
footprint D0016A_N (SOIC, 16-Leads, Body 10x4mm, Pitch 1.27mm, IPC Medium Density)
footprint D0016A_M (SOIC, 16-Leads, Body 10x4mm, Pitch 1.27mm, IPC Low Density)
footprint D0016A_L (SOIC, 16-Leads, Body 10x4mm, Pitch 1.27mm, IPC High Density)
pins: 1 ~{0} (out), 2 ~{1} (out), 3 ~{2} (out), 4 ~{3} (out), 5 ~{4} (out), 6 ~{5} (out), 7 ~{6} (out), 8 GND (power), 9 ~{7} (out), 10 ~{8} (out), 11 ~{9} (out), 12 D (in), 13 C (in), 14 B (in), 15 A (in), 16 VCC (power)

## SN74HC42DT
designator U?
4-Line To 10-Line Decoders (1 of 10), D0016A, SMALL T&R; Generic Part Number: SN74HC42; Manufacturer: Texas Instruments; PartNumber: SN74HC42DT; VCC(Min)(V): 2; VCC(Max)(V): 6; Output Type: CMOS; Function: Decoder/Demultiplexer; ICC @ Nom Voltage(Max)(mA): 0.08; Input Type: LVTTL/CMOS; Bits(#): 10; F @ Nom Voltage(Max)(Mhz): 28; Configuration: 4：10; Channels(#): 1; Rating: Catalog; Technology Family: HC; Voltage(Nom)(V): 3.3,5; Schmitt Trigger: No; Output Drive (IOL/IOH)(Max)(mA): 5.2/-5.2; tpd @ Nom Voltage(Max)(ns): 38; DatasheetVersion: SCLS091D; PackageReference: D0016A; Supplier 1: Mouser; Supplier Part Number 1: 595-SN74HC42DT; Supplier 2: Digi-Key; Supplier Part Number 2: SN74HC42DT-ND; Operating Temperature Range(C): -40 to 85; Type: Standard; Code_JEDEC: MS-012 variation AC; ComponentLink1Description: Manufacturer URL; ComponentLink1URL: http://www.ti.com/; ComponentLink2Description: Datasheet; ComponentLink2URL: http://www.ti.com/lit/ds/symlink/sn74hc42.pdf; ComponentLink3Description: Package Specification; ComponentLink3URL: http://www.ti.com/lit/ml/mpds178g/mpds178g.pdf
footprint D0016A_N (SOIC, 16-Leads, Body 10x4mm, Pitch 1.27mm, IPC Medium Density)
footprint D0016A_M (SOIC, 16-Leads, Body 10x4mm, Pitch 1.27mm, IPC Low Density)
footprint D0016A_L (SOIC, 16-Leads, Body 10x4mm, Pitch 1.27mm, IPC High Density)
pins: 1 ~{0} (out), 2 ~{1} (out), 3 ~{2} (out), 4 ~{3} (out), 5 ~{4} (out), 6 ~{5} (out), 7 ~{6} (out), 8 GND (power), 9 ~{7} (out), 10 ~{8} (out), 11 ~{9} (out), 12 D (in), 13 C (in), 14 B (in), 15 A (in), 16 VCC (power)

## SN74HC42N
designator U?
4-Line To 10-Line Decoders (1 of 10), N0016A, TUBE; Generic Part Number: SN74HC42; Manufacturer: Texas Instruments; PartNumber: SN74HC42N; VCC(Min)(V): 2; VCC(Max)(V): 6; Output Type: CMOS; Function: Decoder/Demultiplexer; ICC @ Nom Voltage(Max)(mA): 0.08; Input Type: LVTTL/CMOS; Bits(#): 10; F @ Nom Voltage(Max)(Mhz): 28; Configuration: 4：10; Channels(#): 1; Rating: Catalog; Technology Family: HC; Voltage(Nom)(V): 3.3,5; Schmitt Trigger: No; Output Drive (IOL/IOH)(Max)(mA): 5.2/-5.2; tpd @ Nom Voltage(Max)(ns): 38; DatasheetVersion: SCLS091D; PackageReference: N0016A; Supplier 1: Mouser; Supplier Part Number 1: 595-SN74HC42N; Supplier 2: Digi-Key; Supplier Part Number 2: 296-8332-5-ND; Operating Temperature Range(C): -40 to 85; Type: Standard; Code_JEDEC: MS-001; ComponentLink1Description: Manufacturer URL; ComponentLink1URL: http://www.ti.com/; ComponentLink2Description: Datasheet; ComponentLink2URL: http://www.ti.com/lit/ds/symlink/sn74hc42.pdf; ComponentLink3Description: Package Specification; ComponentLink3URL: http://www.ti.com/lit/ml/mpdi002c/mpdi002c.pdf
footprint N0016A (DIP, 16-Leads, Body 19.7x6.6mm, Pitch 2.54mm)
pins: 1 ~{0} (out), 2 ~{1} (out), 3 ~{2} (out), 4 ~{3} (out), 5 ~{4} (out), 6 ~{5} (out), 7 ~{6} (out), 8 GND (power), 9 ~{7} (out), 10 ~{8} (out), 11 ~{9} (out), 12 D (in), 13 C (in), 14 B (in), 15 A (in), 16 VCC (power)

## SN74HC138D
designator U?
3-Line To 8-Line Decoders/Demultiplexers, D0016A, TUBE; Generic Part Number: SN74HC138; Manufacturer: Texas Instruments; PartNumber: SN74HC138D; VCC(Min)(V): 2; VCC(Max)(V): 6; Output Type: CMOS; Function: Decoder/Demultiplexer; ICC @ Nom Voltage(Max)(mA): 0.08; Input Type: LVTTL/CMOS; Bits(#): 8; F @ Nom Voltage(Max)(Mhz): 28; Configuration: 3：8; Channels(#): 1; Rating: Catalog; Technology Family: HC; Voltage(Nom)(V): 3.3,5; Schmitt Trigger: No; Output Drive (IOL/IOH)(Max)(mA): 5.2/-5.2; tpd @ Nom Voltage(Max)(ns): 45; DatasheetVersion: SCLS107E; PackageReference: D0016A; Supplier 1: Mouser; Supplier Part Number 1: 595-SN74HC138D; Supplier 2: Digi-Key; Supplier Part Number 2: 296-1193-5-ND; Operating Temperature Range(C): -40 to 85; Type: Standard; Code_JEDEC: MS-012 variation AC; ComponentLink1Description: Manufacturer URL; ComponentLink1URL: http://www.ti.com/; ComponentLink2Description: Datasheet; ComponentLink2URL: http://www.ti.com/lit/ds/symlink/sn74hc138.pdf; ComponentLink3Description: Package Specification; ComponentLink3URL: http://www.ti.com/lit/ml/mpds178g/mpds178g.pdf
footprint D0016A_N (SOIC, 16-Leads, Body 10x4mm, Pitch 1.27mm, IPC Medium Density)
footprint D0016A_M (SOIC, 16-Leads, Body 10x4mm, Pitch 1.27mm, IPC Low Density)
footprint D0016A_L (SOIC, 16-Leads, Body 10x4mm, Pitch 1.27mm, IPC High Density)
pins: 1 A (in), 2 B (in), 3 C (in), 4 ~{G}2A (in), 5 ~{G}2B (in), 6 G1 (in), 7 ~{Y7} (out), 8 GND (power), 9 ~{Y6} (out), 10 ~{Y5} (out), 11 ~{Y4} (out), 12 ~{Y3} (out), 13 ~{Y2} (out), 14 ~{Y1} (out), 15 ~{Y0} (out), 16 VCC (power)

## SN74HC138DBR
designator U?
3-Line To 8-Line Decoders/Demultiplexers, DB0016A, LARGE T&R; Generic Part Number: SN74HC138; Manufacturer: Texas Instruments; PartNumber: SN74HC138DBR; VCC(Min)(V): 2; VCC(Max)(V): 6; Output Type: CMOS; Function: Decoder/Demultiplexer; ICC @ Nom Voltage(Max)(mA): 0.08; Input Type: LVTTL/CMOS; Bits(#): 8; F @ Nom Voltage(Max)(Mhz): 28; Configuration: 3：8; Channels(#): 1; Rating: Catalog; Technology Family: HC; Voltage(Nom)(V): 3.3,5; Schmitt Trigger: No; Output Drive (IOL/IOH)(Max)(mA): 5.2/-5.2; tpd @ Nom Voltage(Max)(ns): 45; DatasheetVersion: SCLS107E; PackageReference: DB0016A; Supplier 1: Mouser; Supplier Part Number 1: 595-SN74HC138DBR; Supplier 2: Digi-Key; Supplier Part Number 2: 296-8227-2-ND; Supplier 3: Digi-Key; Supplier Part Number 3: 296-8227-1-ND; Supplier 4: Digi-Key; Supplier Part Number 4: 296-8227-6-ND; Operating Temperature Range(C): -40 to 85; Type: Standard; Code_JEDEC: MO-150; ComponentLink1Description: Manufacturer URL; ComponentLink1URL: http://www.ti.com/; ComponentLink2Description: Datasheet; ComponentLink2URL: http://www.ti.com/lit/ds/symlink/sn74hc138.pdf; ComponentLink3Description: Package Specification; ComponentLink3URL: http://www.ti.com/lit/ml/mpds507/mpds507.pdf
footprint DB0016A_N (SOP, 16-Leads, Body 5.6x6.5mm, Pitch 0.65mm, IPC Medium Density)
footprint DB0016A_M (SOP, 16-Leads, Body 5.6x6.5mm, Pitch 0.65mm, IPC Low Density)
footprint DB0016A_L (SOP, 16-Leads, Body 5.6x6.5mm, Pitch 0.65mm, IPC High Density)
pins: 1 A (in), 2 B (in), 3 C (in), 4 ~{G}2A (in), 5 ~{G}2B (in), 6 G1 (in), 7 ~{Y7} (out), 8 GND (power), 9 ~{Y6} (out), 10 ~{Y5} (out), 11 ~{Y4} (out), 12 ~{Y3} (out), 13 ~{Y2} (out), 14 ~{Y1} (out), 15 ~{Y0} (out), 16 VCC (power)

## SN74HC138DR
designator U?
3-Line To 8-Line Decoders/Demultiplexers, D0016A, LARGE T&R; Generic Part Number: SN74HC138; Manufacturer: Texas Instruments; PartNumber: SN74HC138DR; VCC(Min)(V): 2; VCC(Max)(V): 6; Output Type: CMOS; Function: Decoder/Demultiplexer; ICC @ Nom Voltage(Max)(mA): 0.08; Input Type: LVTTL/CMOS; Bits(#): 8; F @ Nom Voltage(Max)(Mhz): 28; Configuration: 3：8; Channels(#): 1; Rating: Catalog; Technology Family: HC; Voltage(Nom)(V): 3.3,5; Schmitt Trigger: No; Output Drive (IOL/IOH)(Max)(mA): 5.2/-5.2; tpd @ Nom Voltage(Max)(ns): 45; DatasheetVersion: SCLS107E; PackageReference: D0016A; Supplier 1: Mouser; Supplier Part Number 1: 595-SN74HC138DR; Supplier 2: Digi-Key; Supplier Part Number 2: 296-1193-2-ND; Supplier 3: Digi-Key; Supplier Part Number 3: 296-1193-1-ND; Supplier 4: Digi-Key; Supplier Part Number 4: 296-1193-6-ND; Operating Temperature Range(C): -40 to 85; Type: Standard; Code_JEDEC: MS-012 variation AC; ComponentLink1Description: Manufacturer URL; ComponentLink1URL: http://www.ti.com/; ComponentLink2Description: Datasheet; ComponentLink2URL: http://www.ti.com/lit/ds/symlink/sn74hc138.pdf; ComponentLink3Description: Package Specification; ComponentLink3URL: http://www.ti.com/lit/ml/mpds178g/mpds178g.pdf
footprint D0016A_N (SOIC, 16-Leads, Body 10x4mm, Pitch 1.27mm, IPC Medium Density)
footprint D0016A_M (SOIC, 16-Leads, Body 10x4mm, Pitch 1.27mm, IPC Low Density)
footprint D0016A_L (SOIC, 16-Leads, Body 10x4mm, Pitch 1.27mm, IPC High Density)
pins: 1 A (in), 2 B (in), 3 C (in), 4 ~{G}2A (in), 5 ~{G}2B (in), 6 G1 (in), 7 ~{Y7} (out), 8 GND (power), 9 ~{Y6} (out), 10 ~{Y5} (out), 11 ~{Y4} (out), 12 ~{Y3} (out), 13 ~{Y2} (out), 14 ~{Y1} (out), 15 ~{Y0} (out), 16 VCC (power)

## SN74HC138DRG4
designator U?
3-Line To 8-Line Decoders/Demultiplexers, D0016A, LARGE T&R; Generic Part Number: SN74HC138; Manufacturer: Texas Instruments; PartNumber: SN74HC138DRG4; VCC(Min)(V): 2; VCC(Max)(V): 6; Output Type: CMOS; Function: Decoder/Demultiplexer; ICC @ Nom Voltage(Max)(mA): 0.08; Input Type: LVTTL/CMOS; Bits(#): 8; F @ Nom Voltage(Max)(Mhz): 28; Configuration: 3：8; Channels(#): 1; Rating: Catalog; Technology Family: HC; Voltage(Nom)(V): 3.3,5; Schmitt Trigger: No; Output Drive (IOL/IOH)(Max)(mA): 5.2/-5.2; tpd @ Nom Voltage(Max)(ns): 45; DatasheetVersion: SCLS107E; PackageReference: D0016A; Supplier 1: Mouser; Supplier Part Number 1: 595-SN74HC138DRG4; Supplier 2: Digi-Key; Supplier Part Number 2: 296-37418-2-ND; Supplier 3: Digi-Key; Supplier Part Number 3: 296-37418-1-ND; Supplier 4: Digi-Key; Supplier Part Number 4: 296-37418-6-ND; Operating Temperature Range(C): -40 to 85; Type: Standard; Code_JEDEC: MS-012 variation AC; ComponentLink1Description: Manufacturer URL; ComponentLink1URL: http://www.ti.com/; ComponentLink2Description: Datasheet; ComponentLink2URL: http://www.ti.com/lit/ds/symlink/sn74hc138.pdf; ComponentLink3Description: Package Specification; ComponentLink3URL: http://www.ti.com/lit/ml/mpds178g/mpds178g.pdf
footprint D0016A_N (SOIC, 16-Leads, Body 10x4mm, Pitch 1.27mm, IPC Medium Density)
footprint D0016A_M (SOIC, 16-Leads, Body 10x4mm, Pitch 1.27mm, IPC Low Density)
footprint D0016A_L (SOIC, 16-Leads, Body 10x4mm, Pitch 1.27mm, IPC High Density)
pins: 1 A (in), 2 B (in), 3 C (in), 4 ~{G}2A (in), 5 ~{G}2B (in), 6 G1 (in), 7 ~{Y7} (out), 8 GND (power), 9 ~{Y6} (out), 10 ~{Y5} (out), 11 ~{Y4} (out), 12 ~{Y3} (out), 13 ~{Y2} (out), 14 ~{Y1} (out), 15 ~{Y0} (out), 16 VCC (power)

## SN74HC138DT
designator U?
3-Line To 8-Line Decoders/Demultiplexers, D0016A, SMALL T&R; Generic Part Number: SN74HC138; Manufacturer: Texas Instruments; PartNumber: SN74HC138DT; VCC(Min)(V): 2; VCC(Max)(V): 6; Output Type: CMOS; Function: Decoder/Demultiplexer; ICC @ Nom Voltage(Max)(mA): 0.08; Input Type: LVTTL/CMOS; Bits(#): 8; F @ Nom Voltage(Max)(Mhz): 28; Configuration: 3：8; Channels(#): 1; Rating: Catalog; Technology Family: HC; Voltage(Nom)(V): 3.3,5; Schmitt Trigger: No; Output Drive (IOL/IOH)(Max)(mA): 5.2/-5.2; tpd @ Nom Voltage(Max)(ns): 45; DatasheetVersion: SCLS107E; PackageReference: D0016A; Supplier 1: Mouser; Supplier Part Number 1: 595-SN74HC138DT; Supplier 2: Digi-Key; Supplier Part Number 2: SN74HC138DT-ND; Operating Temperature Range(C): -40 to 85; Type: Standard; Code_JEDEC: MS-012 variation AC; ComponentLink1Description: Manufacturer URL; ComponentLink1URL: http://www.ti.com/; ComponentLink2Description: Datasheet; ComponentLink2URL: http://www.ti.com/lit/ds/symlink/sn74hc138.pdf; ComponentLink3Description: Package Specification; ComponentLink3URL: http://www.ti.com/lit/ml/mpds178g/mpds178g.pdf
footprint D0016A_N (SOIC, 16-Leads, Body 10x4mm, Pitch 1.27mm, IPC Medium Density)
footprint D0016A_M (SOIC, 16-Leads, Body 10x4mm, Pitch 1.27mm, IPC Low Density)
footprint D0016A_L (SOIC, 16-Leads, Body 10x4mm, Pitch 1.27mm, IPC High Density)
pins: 1 A (in), 2 B (in), 3 C (in), 4 ~{G}2A (in), 5 ~{G}2B (in), 6 G1 (in), 7 ~{Y7} (out), 8 GND (power), 9 ~{Y6} (out), 10 ~{Y5} (out), 11 ~{Y4} (out), 12 ~{Y3} (out), 13 ~{Y2} (out), 14 ~{Y1} (out), 15 ~{Y0} (out), 16 VCC (power)

## SN74HC138N
designator U?
3-Line To 8-Line Decoders/Demultiplexers, N0016A, TUBE; Generic Part Number: SN74HC138; Manufacturer: Texas Instruments; PartNumber: SN74HC138N; VCC(Min)(V): 2; VCC(Max)(V): 6; Output Type: CMOS; Function: Decoder/Demultiplexer; ICC @ Nom Voltage(Max)(mA): 0.08; Input Type: LVTTL/CMOS; Bits(#): 8; F @ Nom Voltage(Max)(Mhz): 28; Configuration: 3：8; Channels(#): 1; Rating: Catalog; Technology Family: HC; Voltage(Nom)(V): 3.3,5; Schmitt Trigger: No; Output Drive (IOL/IOH)(Max)(mA): 5.2/-5.2; tpd @ Nom Voltage(Max)(ns): 45; DatasheetVersion: SCLS107E; PackageReference: N0016A; Supplier 1: Mouser; Supplier Part Number 1: 595-SN74HC138N; Supplier 2: Digi-Key; Supplier Part Number 2: 296-1575-5-ND; Operating Temperature Range(C): -40 to 85; Type: Standard; Code_JEDEC: MS-001; ComponentLink1Description: Manufacturer URL; ComponentLink1URL: http://www.ti.com/; ComponentLink2Description: Datasheet; ComponentLink2URL: http://www.ti.com/lit/ds/symlink/sn74hc138.pdf; ComponentLink3Description: Package Specification; ComponentLink3URL: http://www.ti.com/lit/ml/mpdi002c/mpdi002c.pdf
footprint N0016A (DIP, 16-Leads, Body 19.7x6.6mm, Pitch 2.54mm)
pins: 1 A (in), 2 B (in), 3 C (in), 4 ~{G}2A (in), 5 ~{G}2B (in), 6 G1 (in), 7 ~{Y7} (out), 8 GND (power), 9 ~{Y6} (out), 10 ~{Y5} (out), 11 ~{Y4} (out), 12 ~{Y3} (out), 13 ~{Y2} (out), 14 ~{Y1} (out), 15 ~{Y0} (out), 16 VCC (power)